# Altium schematic symbol library 74LVC1G07SE-7.SchLib: 1 symbol
Pins are listed as number, name and electrical type; pins without a type are passive.

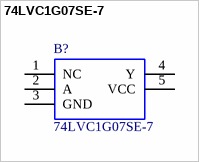
[diagram p0: symbol 74LVC1G07SE-7]

## 74LVC1G07SE-7
designator B?
Buffers & Line Drivers Single Gate Open Out 1.65 to 5.5V 32mA; Manufacturer_Name: Diodes Incorporated; Geometry.Height: 1.1mm; Manufacturer_Part_Number: 74LVC1G07SE-7; Mouser Part Number: 621-74LVC1G07SE-7; Mouser Price/Stock: https://www.mouser.co.uk/ProductDetail/Diodes-Incorporated/74LVC1G07SE-7?qs=abZ1nkZpTuNoZmx9wrxFdA%3D%3D; Arrow Part Number: 74LVC1G07SE-7; Arrow Price/Stock: https://www.arrow.com/en/products/74lvc1g07se-7/diodes-incorporated?utm_currency=USD&region=europe; Datasheet Link: https://www.diodes.com//assets/Datasheets/74LVC1G07.pdf
footprint SOT65P210X110-5N
pins: 1 NC, 2 A, 3 GND, 4 Y, 5 VCC